# Altium schematic symbol library RFID_system_atxmegau.SCHLIB: 18 symbols
Pins are listed as number, name and electrical type; pins without a type are passive.

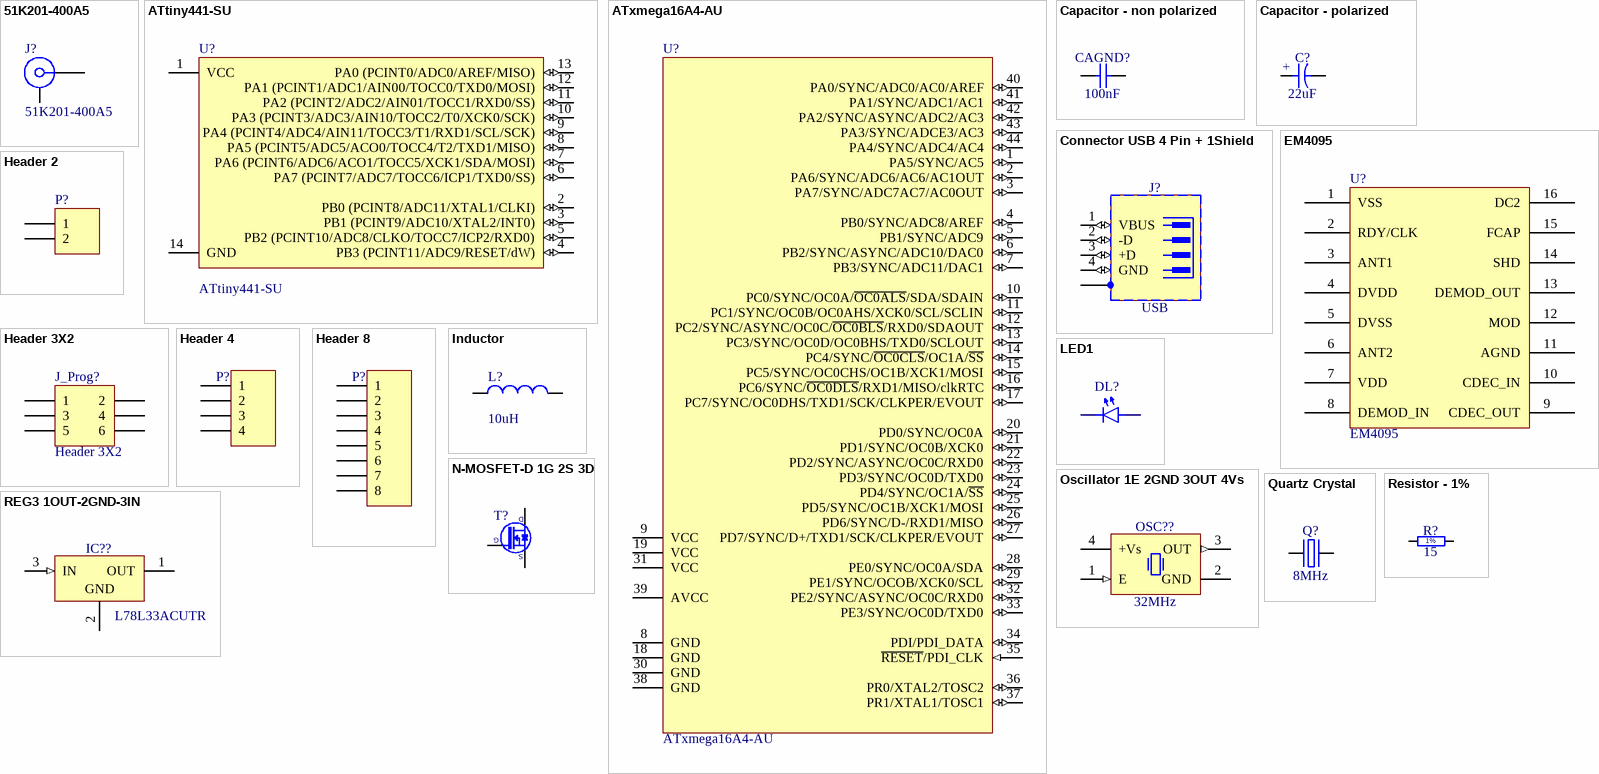
[diagram p0: symbols 51K201-400A5 to Resistor - 1%]

## 51K201-400A5
designator J?
BNC 50R Right Angle Jack, Up to 10 GHz, -55 to 155 degC; Design Note: Footprint in library is a generic example - only application specific footprint delivers High Performance; DatasheetVersion: a00; PackageVersion: a00; PackageReference: 51K201-400A5; PackageDescription: 50R BNC Right Angle Jack, 12 x 23.1 x 14.5 mm; Mounting Technology: Through Hole; PartNumber: 51K201-400A5; ComponentLink1Description: Manufacturer URL; ComponentLink1URL: http://www.rosenberger.de; ComponentLink2Description: Datasheet; ComponentLink2URL: http://rosenberger.de/ok/images/documents/db/51K201-400A5.pdf; ComponentLink3Description: Package Specification; ComponentLink3URL: http://rosenberger.de/ok/images/documents/db/51K201-400A5.pdf; ComponentLink4Description: Series Overview / Design Note; ComponentLink4URL: http://rosenberger.de/ok/images/documents/spez/51.pdf; ComponentLink5Description: Webshop / RFQ; ComponentLink5URL: http://www.rosenberger.com/en/contact/sales/
footprint ROS-51K201-400A5_V (BNC 50R Right Angle Jack, 12x23.1x14.5mm, Rosenberger Recommended)
pins: 1, MH

## ATtiny441-SU
designator U?  Name: ATtiny441-SU
8-bit AVR Microcontroller, 1.8-5.5V, 2KB Flash, 128 Bytes SRAM, 12 GPIO pins, 14-pin SOIC, Industrial Grade (-40°C to 85°C), Pb-Free; Published: 1-Apr-2010; DatasheetVersion: revA, Mar-2010; PackageVersion: revA, Feb-2002; PackageReference: 14S1; Publisher: Altium Limited; PackageDescription: 14-Lead, 0.150” Wide Body, Plastic Gull Wing Small Outline Package (SOIC); Code_JEDEC: MS-012-AB; Code_IPC: SOIC127P600-14; ComponentLink1Description: ATtiny20 Datasheet; ComponentLink1URL: http://www.atmel.com/dyn/resources/prod_documents/doc8235.pdf; ComponentLink2Description: ATtiny20 Summary; ComponentLink2URL: http://www.atmel.com/dyn/resources/prod_documents/8235S.pdf; ComponentLink3Description: Atmel.com Home; ComponentLink3URL: http://www.atmel.com; Supplier 1: Digi-Key; Supplier Part Number 1: 1611-ATTINY44-15SSZCT-ND
footprint 14S1_N (SOIC, 14-Leads, Body 8.7x3.9mm, Pitch 1.27mm, IPC Medium Density)
footprint 14S1_L (SOIC, 14-Leads, Body 8.7x3.9mm, Pitch 1.27mm, IPC High Density)
footprint 14S1_M (SOIC, 14-Leads, Body 8.7x3.9mm, Pitch 1.27mm, IPC Low Density)
pins: 1 VCC (power), 2 PB0 (PCINT8/ADC11/XTAL1/CLKI) (io), 3 PB1 (PCINT9/ADC10/XTAL2/INT0) (io), 4 PB3 (PCINT11/ADC9/RESET/dW) (io), 5 PB2 (PCINT10/ADC8/CLKO/TOCC7/ICP2/RXD0) (io), 6 PA7 (PCINT7/ADC7/TOCC6/ICP1/TXD0/SS) (io), 7 PA6 (PCINT6/ADC6/ACO1/TOCC5/XCK1/SDA/MOSI) (io), 8 PA5 (PCINT5/ADC5/ACO0/TOCC4/T2/TXD1/MISO) (io), 9 PA4 (PCINT4/ADC4/AIN11/TOCC3/T1/RXD1/SCL/SCK) (io), 10 PA3 (PCINT3/ADC3/AIN10/TOCC2/T0/XCK0/SCK) (io), 11 PA2 (PCINT2/ADC2/AIN01/TOCC1/RXD0/SS) (io), 12 PA1 (PCINT1/ADC1/AIN00/TOCC0/TXD0/MOSI) (io), 13 PA0 (PCINT0/ADC0/AREF/MISO) (io), 14 GND (power)

## ATxmega16A4-AU
designator U?
8/16-bit AVR XMEGA A4 Microcontroller, 1.6-3.6V, 16KB + 4KB Flash, 1KB EEPROM, 2KB SRAM, 44-pin TQFP, Industrial Grade (-40°C to 85°C), Pb-Free; Published: 1-Apr-2010; DatasheetVersion: revN, Feb-2010; PackageVersion: rev.B, Oct-2001; PackageReference: 44A; Publisher: Altium Limited; PackageDescription: 44-Pin Plastic Thin Profile Quad Flat Pack, 10 x 10 x 1.0 mm Body, 0.8 mm Pitch (TQFP); Supplier 1: Digi-Key; Supplier Part Number 1: ATXMEGA16A4-AU-ND; Supplier 2: Farnell; Supplier Part Number 2: 1748552; Supplier 3: Mouser; Supplier Part Number 3: 556-ATXMEGA16A4-AU; ComponentLink1Description: Manufacturer Link; ComponentLink1URL: http://www.atmel.com/products/avr/default.asp?; ComponentLink2Description: ATxmega16A4/32A4/64A4/128A4 Datasheet; ComponentLink2URL: http://www.atmel.com/dyn/resources/prod_documents/doc8069.pdf; ComponentLink3Description: Atmel.com Home; ComponentLink3URL: http://www.atmel.com
footprint 44A_N (Thin QFP, 44-Leads, Body 10x10mm, Pitch 0.8mm, IPC Medium Density)
footprint 44A_L (Thin QFP, 44-Leads, Body 10x10mm, Pitch 0.8mm, IPC High Density)
footprint 44A_M (Thin QFP, 44-Leads, Body 10x10mm, Pitch 0.8mm, IPC Low Density)
pins: 1 PA5/SYNC/AC5 (io), 2 PA6/SYNC/ADC6/AC6/AC1OUT (io), 3 PA7/SYNC/ADC7AC7/AC0OUT (io), 4 PB0/SYNC/ADC8/AREF (io), 5 PB1/SYNC/ADC9 (io), 6 PB2/SYNC/ASYNC/ADC10/DAC0 (io), 7 PB3/SYNC/ADC11/DAC1 (io), 8 GND (power), 9 VCC (power), 10 PC0/SYNC/OC0A/~{OC0ALS}/SDA/SDAIN (io), 11 PC1/SYNC/OC0B/OC0AHS/XCK0/SCL/SCLIN (io), 12 PC2/SYNC/ASYNC/OC0C/~{OC0BLS}/RXD0/SDAOUT (io), 13 PC3/SYNC/OC0D/OC0BHS/TXD0/SCLOUT (io), 14 PC4/SYNC/~{OC0CLS}/OC1A/~{SS} (io), 15 PC5/SYNC/OC0CHS/OC1B/XCK1/MOSI (io), 16 PC6/SYNC/~{OC0DLS}/RXD1/MISO/clkRTC (io), 17 PC7/SYNC/OC0DHS/TXD1/SCK/CLKPER/EVOUT (io), 18 GND (power), 19 VCC (power), 20 PD0/SYNC/OC0A (io), 21 PD1/SYNC/OC0B/XCK0 (io), 22 PD2/SYNC/ASYNC/OC0C/RXD0 (io), 23 PD3/SYNC/OC0D/TXD0 (io), 24 PD4/SYNC/OC1A/~{SS} (io), 25 PD5/SYNC/OC1B/XCK1/MOSI (io), 26 PD6/SYNC/D-/RXD1/MISO (io), 27 PD7/SYNC/D+/TXD1/SCK/CLKPER/EVOUT (io), 28 PE0/SYNC/OC0A/SDA (io), 29 PE1/SYNC/OCOB/XCK0/SCL (io), 30 GND (power), 31 VCC (power), 32 PE2/SYNC/ASYNC/OC0C/RXD0 (io), 33 PE3/SYNC/OC0D/TXD0 (io), 34 PDI/PDI_DATA (io), 35 ~{RESET}/PDI_CLK (in), 36 PR0/XTAL2/TOSC2 (io), 37 PR1/XTAL1/TOSC1 (io), 38 GND (power), 39 AVCC (power), 40 PA0/SYNC/ADC0/AC0/AREF (io), 41 PA1/SYNC/ADC1/AC1 (io), 42 PA2/SYNC/ASYNC/ADC2/AC3 (io), 43 PA3/SYNC/ADCE3/AC3 (io), 44 PA4/SYNC/ADC4/AC4 (io)

## Capacitor - non polarized
designator CAGND?, comment 100nF
Non-polarised capacitor; Part Number: CC0805_100NF_50V_10%_X7R; Part Description: SMD Multilayer Chip Ceramic Capacitor; Manufacturer: GENERIC; Manufacturer1 Part Number: C2012X7R1H104K085AA; Voltage: 50V; TC: X7R; Tolerance: ±10%; Component Kind: Standard; Component Type: Standard; Footprint: CAPC2012X135N; Pin Count: 2; Value: 100nF; Status: Preferred; Manufacturer Part Number: CC0805_100NF_50V_10%_X7R; Case: 0805; Mounted: Yes; Socket: No; SMD: Yes; Sense: No; Manufacturer1 Example: TDK; Manufacturer1 ComponentHeight: 1mm; HelpURL: \\cern.ch\dfs\Applications\Altium\Datasheets\CC0805_X7R_TDK_C.pdf; Author: CERN DEM JLC; CreateDate: 2007-12-03; LatestRevisionDate: 2015-04-22
footprint CAPC2012X135N
pins: 1, 2

## Capacitor - polarized
designator C?, comment 22uF
Polarised capacitor; Part Number: CAE430-540_22UF_10V_20%; Part Description: Aluminum Electrolytic SMT Capacitor; Manufacturer: PANASONIC; Manufacturer Part Number: EEEFK1A220AR; Voltage: 10V; Tolerance: ±20%; Component Kind: Standard; Component Type: Standard; Footprint: CAPAE430X540N; Pin Count: 2; Value: 22uF; Status: Not Recommended; Case: B; Mounted: Yes; Socket: No; SMD: Yes; Sense: No; ComponentHeight: 5.8mm; HelpURL: \\cern.ch\dfs\Applications\Altium\Datasheets\CAE_PANASONIC_FK.pdf; Author: CERN DEM JLC; CreateDate: 2007-12-03; LatestRevisionDate: 2014-11-05
footprint CAPAE430X540N
pins: 1, 2
text: +

## Connector USB 4 Pin + 1Shield
designator J?, comment USB
4 Pin + 1 Shield USB Receptacle; Part Number: FCI_87520-0010BLF; Part Description: USB 2.0 Type A Receptacle, 4 Pins, Right Angle, Shielded; Manufacturer: FCI; Manufacturer Part Number: 87520-0010BLF; PressFit: No; Component Kind: Standard; Component Type: Standard; Footprint: FCI_87520-0010BLF; Pin Count: 6; Family: USB; Mounted: Yes; Socket: No; SMD: No; Sense: No; Status: None; ComponentHeight: 7.7mm; HelpURL: \\cern.ch\dfs\Applications\Altium\Datasheets\FCI_87520-0010BLF.pdf; Author: CERN DEM JMW; CreateDate: 2008-10-06; LatestRevisionDate: 2008-10-06
footprint FCI_87520-0010BLF
pins: 1 VBUS (io), 2 -D (io), 3 +D (io), 4 GND (io), 5 SHIELD (power)

## EM4095
designator U?
footprint SO16_N (SOIC, 16-Leads, Body 9.9x3.8mm, Pitch 1.27mm, IPC Medium Density)
pins: 1 VSS, 2 RDY/CLK, 3 ANT1, 4 DVDD, 5 DVSS, 6 ANT2, 7 VDD, 8 DEMOD_IN, 9 CDEC_OUT, 10 CDEC_IN, 11 AGND, 12 MOD, 13 DEMOD_OUT, 14 SHD, 15 FCAP, 16 DC2

## Header 2
designator P?
Header, 2-Pin; LatestRevisionDate: 17-Jul-2002; LatestRevisionNote: Re-released for DXP Platform.; Publisher: Altium Limited
footprint HDR1X2 (Connector; Header; 2 Position)
signal-integrity model Connector
pins: 1, 2

## Header 3X2
designator J_Prog?
Header, 3-Pin, Dual row; LatestRevisionDate: 17-Jul-2002; LatestRevisionNote: Re-released for DXP Platform.; Publisher: Altium Limited
footprint HDR2X3 (Connector; Header; 3x2 Position)
signal-integrity model Connector
pins: 1, 2, 3, 4, 5, 6

## Header 4
designator P?
Header, 4-Pin; LatestRevisionDate: 17-Jul-2002; LatestRevisionNote: Re-released for DXP Platform.; Publisher: Altium Limited
footprint HDR1X4 (Connector; Header; 4 Position)
signal-integrity model Connector
pins: 1, 2, 3, 4

## Header 8
designator P?
Header, 8-Pin; LatestRevisionDate: 17-Jul-2002; LatestRevisionNote: Re-released for DXP Platform.; Publisher: Altium Limited
footprint HDR1X8 (Connector; Header; 8 Position)
signal-integrity model Connector
pins: 1, 2, 3, 4, 5, 6, 7, 8

## Inductor
designator L?  value 10uH
Inductor; Code_IEC: 1005; Published: 8-Jun-2000; LatestRevisionDate: 29-May-2009; LatestRevisionNote: IPC-7351 Footprint Added.; PackageReference: 0402-A; Publisher: Altium Limited; PackageDescription: Chip Inductor; Code_JEITA: 0402
footprint 0402-A (Chip Inductor, Body 1.0x0.5mm, IPC High Density)
footprint INDC1608L (Chip Inductor, Body 1.6x0.8mm, IPC High Density)
footprint 2029 (Chip Inductor, Body 2.0x1.2mm, IPC High Density)
footprint 0603 (Chip Inductor, Body 0.6x0.3mm, IPC High Density)
footprint INDC3216 (Chip Inductor, Body 3.2x1.6mm, IPC High Density)
footprint INDC4532 (Chip Inductor, Body 4.5x3.2mm, IPC High Density)
simulation model INDUCTOR (Inductor)
signal-integrity model Inductor
pins: 1, 2

## LED1
designator DL?
Light Emitting Diode
footprint LED_3MM (3mm LED)
footprint LED_5MM (5mm LED)
footprint 0805_LED
footprint LED_1W_HPB8-49KYWGB (1W LED)
pins: A 2, K 1

## N-MOSFET-D 1G 2S 3D
designator T?
N-CHANNEL MOSFET WITH DIODE; Part Number: BSS138LT1G; Part Description: 50V 200mA N-Channel Enhancement Mode Field-Effect Transistor; Manufacturer: ON SEMICONDUCTOR; PressFit: No; Bonding: No; Component Kind: Standard; Component Type: Standard; Device: BSS138LT1G; Footprint: SOT95P240X110-3N; PackageDescription: SOT23 3-Leads, Pitch 0.95mm - Body 1.4x3mm, IPC Medium Density; Manufacturer Part Number: BSS138LT1G; Pin Count: 3; Case: SOT23-3; Mounted: Yes; Socket: No; SMD: Yes; Sense: No; ComponentHeight: 1.11mm; HelpURL: \\cern.ch\dfs\Applications\Altium\Datasheets\BSS138LT1G.pdf; Author: CERN DEM JLC; CreateDate: 2009-03-23; LatestRevisionDate: 2009-03-23
footprint SOT95P240X110-3N
pins: 1 G, 2 S, 3 D

## Oscillator 1E 2GND 3OUT 4Vs
designator OSC??, comment 32MHz
Oscillator 4 pins 1=E 2=GND 3=OUT 4=+Vs; Part Number: OSC_32MHZ_IQD_LFSPXO025916; Part Description: 2.5V, ±50ppm, 15pF, -40 to 85°C, CMOS Surface Mount Clock Oscillator (CFPS-32 Series); Manufacturer: IQD FREQUENCY PRODUCTS; Manufacturer Part Number: LFSPXO025916; PressFit: No; Bonding: No; Component Kind: Standard; Component Type: Standard; Footprint: OSC_IQD_CFPS-32; PackageDescription: Oscillator, Side Concave; 5.08mm Pitch; 4 Pins, 5.00mm L X 7.00mm W X 1.40mm H, CFPS-32 Series; Value: 32MHz; Pin Count: 4; Mounted: Yes; Socket: No; SMD: Yes; Sense: No; ComponentHeight: 1.4mm; HelpURL: \\cern.ch\dfs\Applications\Altium\Datasheets\OSC_IQD_LFSPXO025916.pdf; Author: CERN DEM JLC; CreateDate: 2010-12-13; LatestRevisionDate: 2016-11-03
footprint OSC_IQD_CFPS-32
pins: 1 E (in), 2 GND (power), 3 OUT (out), 4 +Vs (power)

## Quartz Crystal
designator Q?, comment 8MHz
Quartz Crystal; Part Number: XTAL_8MHZ_TXC_7A-8.000MAAE-T; Part Description: Tolerance: ±30ppm, Stability: ±30ppm, -20°C to +70°C, 12pF, SMD Glass Seam Sealing Crystal, 7A Series; Manufacturer: TXC CORPORATION; Manufacturer Part Number: 7A-8.000MAAE-T; PressFit: No; Bonding: No; Component Kind: Standard; Component Type: Standard; Footprint: XTAL_TXC_7A; PackageDescription: 2 Pins, 3.2x5mm, SMD Glass Seam Sealing Crystal, 7A Serie; Value: 8MHz; Pin Count: 2; Mounted: Yes; Socket: No; SMD: Yes; Sense: No; ComponentHeight: 1.2mm; HelpURL: \\cern.ch\dfs\Applications\Altium\Datasheets\XTAL_TXC_7A.pdf; Author: CERN DEM JLC; CreateDate: 2014-10-09; LatestRevisionDate: 2014-11-12
footprint XTAL_TXC_7A
pins: 1 OSC1, 2 OSC2

## REG3 1OUT-2GND-3IN
designator IC??, comment L78L33ACUTR
3-Terminal Regulator 1=OUT 2=GND 3=IN; Part Description: 33V 100mA Positive Voltage Regulator; Manufacturer: ST MICROELECTRONICS; PressFit: No; Bonding: No; Part Number: L78L33ACUTR; Component Kind: Standard; Component Type: Standard; Device: L78L33ACUTR; Footprint: SOT89; PackageDescription: SOT89-3, 3-Leads, Body 2.44x4.5mm; Manufacturer Part Number: L78L33ACUTR; Pin Count: 4; Case: SOT89; Mounted: Yes; Socket: No; SMD: Yes; Sense: No; ComponentHeight: 1.6mm; HelpURL: \\cern.ch\dfs\Applications\Altium\Datasheets\L78L33ACUTR.pdf; Author: CERN DEM JLC; CreateDate: 2014-05-12; LatestRevisionDate: 2014-05-12
footprint SOT89
pins: 1 OUT (power), 2 GND (power), 3 IN (in)

## Resistor - 1%
designator R?, comment 15
Resistor - 1%; Part Number: R1206_10K_1%_0.5W_100PPM_VISHAY_CRCW-HP e3; Part Description: Pulse Proof, High Power Thick Film Chip Resistor; Manufacturer: VISHAY DRALORIC; Manufacturer Part Number: CRCW120610K0FKEAHP; Power: 0.5W; TC: ±100ppm/°C; Voltage: 200V; PressFit: No; Component Kind: Standard; Component Type: Standard; Footprint: RESC3216X65N; Pin Count: 2; Value: 15; Status: None; Tolerance: ±1%; Case: 1206; Mounted: Yes; Sense: No; Socket: No; SMD: Yes; ComponentHeight: 0.65mm; HelpURL: \\cern.ch\dfs\Applications\Altium\Datasheets\R1206_VISHAY_CRCW-HP e3.pdf; Author: CERN DEM JLC; CreateDate: 2014-05-13; LatestRevisionDate: 2014-05-13
footprint RESC3216X65N
pins: 1, 2
text: 1%